# Altium schematic symbol library Vishay.SchLib: 1 symbol
Pins are listed as number, name and electrical type; pins without a type are passive.

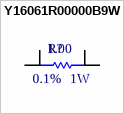
[diagram p0: symbol Y16061R00000B9W]

## Y16061R00000B9W
designator R?  value 1.00  Tolerance: 0.1%  Power: 1W  (hidden comment: Y16061R00000B9W)
RES SMD 1 OHM 1W 2516 WIDE; Manufacturer: Vishay; PartNumber: Y16061R00000B9W
simulation model Resistor (Resistor model)
footprint RES-2512 WIDE
pins: E1 1, E2 1, I1 1, I2 2